# Altium integrated library Microchip PIC16 Part 1.IntLib: 1800 symbols (part 61 of 93)
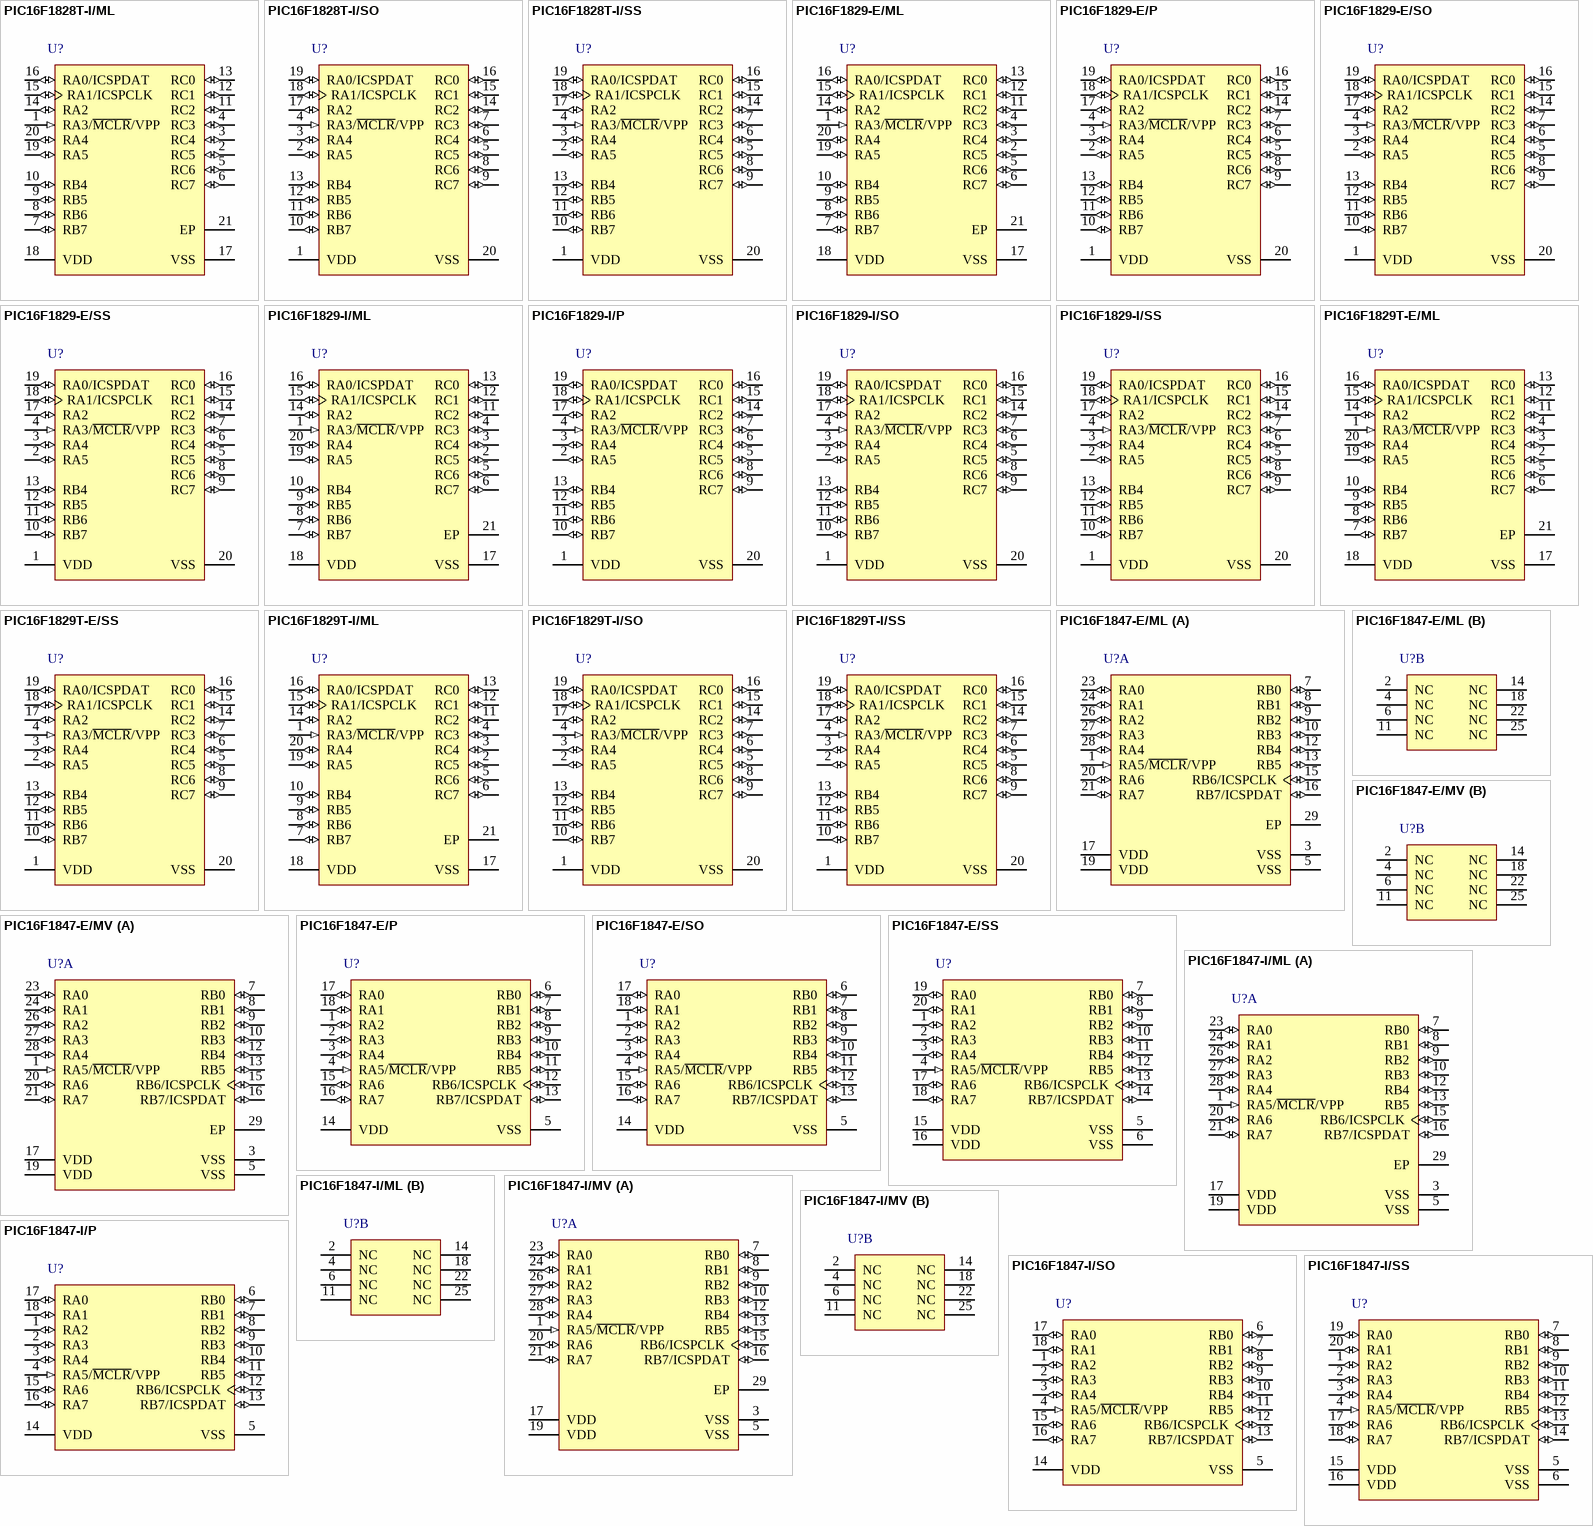
[diagram p159: symbols PIC16F1828T-I/ML to PIC16F1847-I/SS]

## PIC16F1829-I/SO
designator U?
Flash Microcontroller with XLP Technology, 32 MHz, 17 I/O, -40 to 85 degC, 20-pin SOIC (SO20), Tube; Manufacturer: Microchip; PartNumber: PIC16F1829-I/SO; # of A/D Channels: 12; Digital Communication: 1 -A/E/USART, 2 -MSSP(SPI/I2C); EEPROM Data Memory (bytes): 256; I/O Pins: 17; Internal Oscillator: 32 MHz, 31 kHz; Max. CPU Speed MHz: 32; Operation Voltage Range: 1.8V - 5.5V; Program Memory KBytes: 14; Program Memory KWords: 8; RAM: 1024; Timers: 4 - 8-bit, 1 - 16-bit; DatasheetVersion: Rev. C; PackageVersion: C04-094C, 12/2012; PackageReference: SOIC-SO20; PackageDescription: 20-Lead Plastic Small Outline, 7.5 x 12.8 mm Body, 1.27 mm Pitch; Supplier 1: Digi-Key; Supplier Part Number 1: PIC16F1829-I/SO-ND; Supplier 2: Farnell; Supplier Part Number 2: 1841453; Supplier 3: Mouser; Supplier Part Number 3: 579-PIC16F1829-I/SO; Memory Type: Flash; Packing: TUBE; RoHS: TRUE; Mounting Technology: Surface Mount; ComponentLink1Description: Datasheet; ComponentLink1URL: http://ww1.microchip.com/downloads/en/DeviceDoc/41440C.pdf; ComponentLink2Description: Package Specification; ComponentLink2URL: http://www.microchip.com/stellent/groups/techpub_sg/documents/packagingspec/en012702.pdf; ComponentLink3Description: URL Link1; ComponentLink3URL: Product URL:http://www.microchip.com/datasheet/PIC16F1829
footprint MCHP-SOIC-SO20_N (SOIC, 20-Leads, Body 12.8x7.5mm, Pitch 1.27mm, IPC Medium Density)
footprint MCHP-SOIC-SO20_L (SOIC, 20-Leads, Body 12.8x7.5mm, Pitch 1.27mm, IPC High Density)
footprint MCHP-SOIC-SO20_M (SOIC, 20-Leads, Body 12.8x7.5mm, Pitch 1.27mm, IPC Low Density)
pins: 1 VDD (power) "Positive supply.", 2 RA5 (io), 3 RA4 (io), 4 RA3/~{MCLR}/VPP (in), 5 RC5 (io), 6 RC4 (io), 7 RC3 (io), 8 RC6 (io), 9 RC7 (io), 10 RB7 (io), 11 RB6 (io), 12 RB5 (io), 13 RB4 (io), 14 RC2 (io), 15 RC1 (io), 16 RC0 (io), 17 RA2 (io), 18 RA1/ICSPCLK (io), 19 RA0/ICSPDAT (io), 20 VSS (power) "Ground reference."

## PIC16F1829-I/SS
designator U?
Flash Microcontroller with XLP Technology, 32 MHz, 17 I/O, -40 to 85 degC, 20-pin SSOP (SS20), Tube; Manufacturer: Microchip; PartNumber: PIC16F1829-I/SS; # of A/D Channels: 12; Digital Communication: 1 -A/E/USART, 2 -MSSP(SPI/I2C); EEPROM Data Memory (bytes): 256; I/O Pins: 17; Internal Oscillator: 32 MHz, 31 kHz; Max. CPU Speed MHz: 32; Operation Voltage Range: 1.8V - 5.5V; Program Memory KBytes: 14; Program Memory KWords: 8; RAM: 1024; Timers: 4 - 8-bit, 1 - 16-bit; DatasheetVersion: Rev. C; PackageVersion: C04-072B, 12/2012; PackageReference: SSOP-SS20; PackageDescription: 20-Lead Plastic Shrink Small Outline, 5.3 x 7.2 mm Body, 0.65 mm Pitch; Supplier 1: Digi-Key; Supplier Part Number 1: PIC16F1829-I/SS-ND; Supplier 2: Farnell; Supplier Part Number 2: 1841454; Supplier 3: Newark; Supplier Part Number 3: 82R4384; Supplier 4: Newark; Supplier Part Number 4: 83T3017; Supplier 5: Mouser; Supplier Part Number 5: 579-PIC16F1829-I/SS; Memory Type: Flash; Packing: TUBE; RoHS: TRUE; Mounting Technology: Surface Mount; ComponentLink1Description: Datasheet; ComponentLink1URL: http://ww1.microchip.com/downloads/en/DeviceDoc/41440C.pdf; ComponentLink2Description: Package Specification; ComponentLink2URL: http://www.microchip.com/stellent/groups/techpub_sg/documents/packagingspec/en012702.pdf; ComponentLink3Description: URL Link1; ComponentLink3URL: Product URL:http://www.microchip.com/datasheet/PIC16F1829
footprint MCHP-SSOP-SS20_N (SOP, 20-Leads, Body 7.2x5.3mm, Pitch 0.65mm, IPC Medium Density)
footprint MCHP-SSOP-SS20_L (SOP, 20-Leads, Body 7.2x5.3mm, Pitch 0.65mm, IPC High Density)
footprint MCHP-SSOP-SS20_M (SOP, 20-Leads, Body 7.2x5.3mm, Pitch 0.65mm, IPC Low Density)
pins: 1 VDD (power) "Positive supply.", 2 RA5 (io), 3 RA4 (io), 4 RA3/~{MCLR}/VPP (in), 5 RC5 (io), 6 RC4 (io), 7 RC3 (io), 8 RC6 (io), 9 RC7 (io), 10 RB7 (io), 11 RB6 (io), 12 RB5 (io), 13 RB4 (io), 14 RC2 (io), 15 RC1 (io), 16 RC0 (io), 17 RA2 (io), 18 RA1/ICSPCLK (io), 19 RA0/ICSPDAT (io), 20 VSS (power) "Ground reference."

## PIC16F1829T-E/ML
designator U?
Flash Microcontroller with XLP Technology, 32 MHz, 17 I/O, -40 to 125 degC, 20-pin QFN (ML20), Tape and Reel; Manufacturer: Microchip; PartNumber: PIC16F1829T-E/ML; # of A/D Channels: 12; Digital Communication: 1 -A/E/USART, 2 -MSSP(SPI/I2C); EEPROM Data Memory (bytes): 256; I/O Pins: 17; Internal Oscillator: 32 MHz, 31 kHz; Max. CPU Speed MHz: 32; Operation Voltage Range: 1.8V - 5.5V; Packing: T/R; Program Memory KBytes: 14; Program Memory KWords: 8; RAM: 1024; Timers: 4 - 8-bit, 1 - 16-bit; DatasheetVersion: Rev. C; PackageVersion: C04-126B, 12/2012; PackageReference: QFN-ML20; PackageDescription: 20-Lead Plastic Quad Flat, No Lead Package, 4 x 4 mm Body, 0.5 mm Pitch; Memory Type: Flash; RoHS: TRUE; Mounting Technology: Surface Mount; ComponentLink1Description: Datasheet; ComponentLink1URL: http://ww1.microchip.com/downloads/en/DeviceDoc/41440C.pdf; ComponentLink2Description: Package Specification; ComponentLink2URL: http://www.microchip.com/stellent/groups/techpub_sg/documents/packagingspec/en012702.pdf; ComponentLink3Description: URL Link1; ComponentLink3URL: Product URL:http://www.microchip.com/datasheet/PIC16F1829
footprint MCHP-QFN-ML20_N (QFN, 20-Leads, Body 4x4mm, Pitch 0.5mm, Thermal Pad 2.7x2.7mm, IPC Medium Density)
footprint MCHP-QFN-ML20_L (QFN, 20-Leads, Body 4x4mm, Pitch 0.5mm, Thermal Pad 2.7x2.7mm, IPC High Density)
footprint MCHP-QFN-ML20_M (QFN, 20-Leads, Body 4x4mm, Pitch 0.5mm, Thermal Pad 2.7x2.7mm, IPC Low Density)
pins: 1 RA3/~{MCLR}/VPP (in), 2 RC5 (io), 3 RC4 (io), 4 RC3 (io), 5 RC6 (io), 6 RC7 (io), 7 RB7 (io), 8 RB6 (io), 9 RB5 (io), 10 RB4 (io), 11 RC2 (io), 12 RC1 (io), 13 RC0 (io), 14 RA2 (io), 15 RA1/ICSPCLK (io), 16 RA0/ICSPDAT (io), 17 VSS (power) "Ground reference.", 18 VDD (power) "Positive supply.", 19 RA5 (io), 20 RA4 (io), 21 EP

## PIC16F1829T-E/SS
designator U?
Flash Microcontroller with XLP Technology, 32 MHz, 17 I/O, -40 to 125 degC, 20-pin SSOP (SS20), Tape and Reel; Manufacturer: Microchip; PartNumber: PIC16F1829T-E/SS; # of A/D Channels: 12; Digital Communication: 1 -A/E/USART, 2 -MSSP(SPI/I2C); EEPROM Data Memory (bytes): 256; I/O Pins: 17; Internal Oscillator: 32 MHz, 31 kHz; Max. CPU Speed MHz: 32; Operation Voltage Range: 1.8V - 5.5V; Packing: T/R; Program Memory KBytes: 14; Program Memory KWords: 8; RAM: 1024; Timers: 4 - 8-bit, 1 - 16-bit; DatasheetVersion: Rev. C; PackageVersion: C04-072B, 12/2012; PackageReference: SSOP-SS20; PackageDescription: 20-Lead Plastic Shrink Small Outline, 5.3 x 7.2 mm Body, 0.65 mm Pitch; Memory Type: Flash; RoHS: TRUE; Mounting Technology: Surface Mount; ComponentLink1Description: Datasheet; ComponentLink1URL: http://ww1.microchip.com/downloads/en/DeviceDoc/41440C.pdf; ComponentLink2Description: Package Specification; ComponentLink2URL: http://www.microchip.com/stellent/groups/techpub_sg/documents/packagingspec/en012702.pdf; ComponentLink3Description: URL Link1; ComponentLink3URL: Product URL:http://www.microchip.com/datasheet/PIC16F1829
footprint MCHP-SSOP-SS20_N (SOP, 20-Leads, Body 7.2x5.3mm, Pitch 0.65mm, IPC Medium Density)
footprint MCHP-SSOP-SS20_L (SOP, 20-Leads, Body 7.2x5.3mm, Pitch 0.65mm, IPC High Density)
footprint MCHP-SSOP-SS20_M (SOP, 20-Leads, Body 7.2x5.3mm, Pitch 0.65mm, IPC Low Density)
pins: 1 VDD (power) "Positive supply.", 2 RA5 (io), 3 RA4 (io), 4 RA3/~{MCLR}/VPP (in), 5 RC5 (io), 6 RC4 (io), 7 RC3 (io), 8 RC6 (io), 9 RC7 (io), 10 RB7 (io), 11 RB6 (io), 12 RB5 (io), 13 RB4 (io), 14 RC2 (io), 15 RC1 (io), 16 RC0 (io), 17 RA2 (io), 18 RA1/ICSPCLK (io), 19 RA0/ICSPDAT (io), 20 VSS (power) "Ground reference."

## PIC16F1829T-I/ML
designator U?
Flash Microcontroller with XLP Technology, 32 MHz, 17 I/O, -40 to 85 degC, 20-pin QFN (ML20), Tape and Reel; Manufacturer: Microchip; PartNumber: PIC16F1829T-I/ML; # of A/D Channels: 12; Digital Communication: 1 -A/E/USART, 2 -MSSP(SPI/I2C); EEPROM Data Memory (bytes): 256; I/O Pins: 17; Internal Oscillator: 32 MHz, 31 kHz; Max. CPU Speed MHz: 32; Operation Voltage Range: 1.8V - 5.5V; Packing: T/R; Program Memory KBytes: 14; Program Memory KWords: 8; RAM: 1024; Timers: 4 - 8-bit, 1 - 16-bit; DatasheetVersion: Rev. C; PackageVersion: C04-126B, 12/2012; PackageReference: QFN-ML20; PackageDescription: 20-Lead Plastic Quad Flat, No Lead Package, 4 x 4 mm Body, 0.5 mm Pitch; Supplier 1: Digi-Key; Supplier Part Number 1: PIC16F1829T-I/ML-ND; Supplier 2: Mouser; Supplier Part Number 2: 579-PIC16F1829T-I/ML; Memory Type: Flash; RoHS: TRUE; Mounting Technology: Surface Mount; ComponentLink1Description: Datasheet; ComponentLink1URL: http://ww1.microchip.com/downloads/en/DeviceDoc/41440C.pdf; ComponentLink2Description: Package Specification; ComponentLink2URL: http://www.microchip.com/stellent/groups/techpub_sg/documents/packagingspec/en012702.pdf; ComponentLink3Description: URL Link1; ComponentLink3URL: Product URL:http://www.microchip.com/datasheet/PIC16F1829
footprint MCHP-QFN-ML20_N (QFN, 20-Leads, Body 4x4mm, Pitch 0.5mm, Thermal Pad 2.7x2.7mm, IPC Medium Density)
footprint MCHP-QFN-ML20_L (QFN, 20-Leads, Body 4x4mm, Pitch 0.5mm, Thermal Pad 2.7x2.7mm, IPC High Density)
footprint MCHP-QFN-ML20_M (QFN, 20-Leads, Body 4x4mm, Pitch 0.5mm, Thermal Pad 2.7x2.7mm, IPC Low Density)
pins: 1 RA3/~{MCLR}/VPP (in), 2 RC5 (io), 3 RC4 (io), 4 RC3 (io), 5 RC6 (io), 6 RC7 (io), 7 RB7 (io), 8 RB6 (io), 9 RB5 (io), 10 RB4 (io), 11 RC2 (io), 12 RC1 (io), 13 RC0 (io), 14 RA2 (io), 15 RA1/ICSPCLK (io), 16 RA0/ICSPDAT (io), 17 VSS (power) "Ground reference.", 18 VDD (power) "Positive supply.", 19 RA5 (io), 20 RA4 (io), 21 EP

## PIC16F1829T-I/SO
designator U?
Flash Microcontroller with XLP Technology, 32 MHz, 17 I/O, -40 to 85 degC, 20-pin SOIC (SO20), Tape and Reel; Manufacturer: Microchip; PartNumber: PIC16F1829T-I/SO; # of A/D Channels: 12; Digital Communication: 1 -A/E/USART, 2 -MSSP(SPI/I2C); EEPROM Data Memory (bytes): 256; I/O Pins: 17; Internal Oscillator: 32 MHz, 31 kHz; Max. CPU Speed MHz: 32; Operation Voltage Range: 1.8V - 5.5V; Packing: T/R; Program Memory KBytes: 14; Program Memory KWords: 8; RAM: 1024; Timers: 4 - 8-bit, 1 - 16-bit; DatasheetVersion: Rev. C; PackageVersion: C04-094C, 12/2012; PackageReference: SOIC-SO20; PackageDescription: 20-Lead Plastic Small Outline, 7.5 x 12.8 mm Body, 1.27 mm Pitch; Supplier 1: Digi-Key; Supplier Part Number 1: PIC16F1829T-I/SO-ND; Supplier 2: Newark; Supplier Part Number 2: 82R4386; Supplier 3: Mouser; Supplier Part Number 3: 579-PIC16F1829T-I/SO; Memory Type: Flash; RoHS: TRUE; Mounting Technology: Surface Mount; ComponentLink1Description: Datasheet; ComponentLink1URL: http://ww1.microchip.com/downloads/en/DeviceDoc/41440C.pdf; ComponentLink2Description: Package Specification; ComponentLink2URL: http://www.microchip.com/stellent/groups/techpub_sg/documents/packagingspec/en012702.pdf; ComponentLink3Description: URL Link1; ComponentLink3URL: Product URL:http://www.microchip.com/datasheet/PIC16F1829
footprint MCHP-SOIC-SO20_N (SOIC, 20-Leads, Body 12.8x7.5mm, Pitch 1.27mm, IPC Medium Density)
footprint MCHP-SOIC-SO20_L (SOIC, 20-Leads, Body 12.8x7.5mm, Pitch 1.27mm, IPC High Density)
footprint MCHP-SOIC-SO20_M (SOIC, 20-Leads, Body 12.8x7.5mm, Pitch 1.27mm, IPC Low Density)
pins: 1 VDD (power) "Positive supply.", 2 RA5 (io), 3 RA4 (io), 4 RA3/~{MCLR}/VPP (in), 5 RC5 (io), 6 RC4 (io), 7 RC3 (io), 8 RC6 (io), 9 RC7 (io), 10 RB7 (io), 11 RB6 (io), 12 RB5 (io), 13 RB4 (io), 14 RC2 (io), 15 RC1 (io), 16 RC0 (io), 17 RA2 (io), 18 RA1/ICSPCLK (io), 19 RA0/ICSPDAT (io), 20 VSS (power) "Ground reference."

## PIC16F1829T-I/SS
designator U?
Flash Microcontroller with XLP Technology, 32 MHz, 17 I/O, -40 to 85 degC, 20-pin SSOP (SS20), Tape and Reel; Manufacturer: Microchip; PartNumber: PIC16F1829T-I/SS; # of A/D Channels: 12; Digital Communication: 1 -A/E/USART, 2 -MSSP(SPI/I2C); EEPROM Data Memory (bytes): 256; I/O Pins: 17; Internal Oscillator: 32 MHz, 31 kHz; Max. CPU Speed MHz: 32; Operation Voltage Range: 1.8V - 5.5V; Packing: T/R; Program Memory KBytes: 14; Program Memory KWords: 8; RAM: 1024; Timers: 4 - 8-bit, 1 - 16-bit; DatasheetVersion: Rev. C; PackageVersion: C04-072B, 12/2012; PackageReference: SSOP-SS20; PackageDescription: 20-Lead Plastic Shrink Small Outline, 5.3 x 7.2 mm Body, 0.65 mm Pitch; Supplier 1: Digi-Key; Supplier Part Number 1: PIC16F1829T-I/SS-ND; Supplier 2: Newark; Supplier Part Number 2: 82R4387; Supplier 3: Mouser; Supplier Part Number 3: 579-PIC16F1829T-I/SS; Memory Type: Flash; RoHS: TRUE; Mounting Technology: Surface Mount; ComponentLink1Description: Datasheet; ComponentLink1URL: http://ww1.microchip.com/downloads/en/DeviceDoc/41440C.pdf; ComponentLink2Description: Package Specification; ComponentLink2URL: http://www.microchip.com/stellent/groups/techpub_sg/documents/packagingspec/en012702.pdf; ComponentLink3Description: URL Link1; ComponentLink3URL: Product URL:http://www.microchip.com/datasheet/PIC16F1829
footprint MCHP-SSOP-SS20_N (SOP, 20-Leads, Body 7.2x5.3mm, Pitch 0.65mm, IPC Medium Density)
footprint MCHP-SSOP-SS20_L (SOP, 20-Leads, Body 7.2x5.3mm, Pitch 0.65mm, IPC High Density)
footprint MCHP-SSOP-SS20_M (SOP, 20-Leads, Body 7.2x5.3mm, Pitch 0.65mm, IPC Low Density)
pins: 1 VDD (power) "Positive supply.", 2 RA5 (io), 3 RA4 (io), 4 RA3/~{MCLR}/VPP (in), 5 RC5 (io), 6 RC4 (io), 7 RC3 (io), 8 RC6 (io), 9 RC7 (io), 10 RB7 (io), 11 RB6 (io), 12 RB5 (io), 13 RB4 (io), 14 RC2 (io), 15 RC1 (io), 16 RC0 (io), 17 RA2 (io), 18 RA1/ICSPCLK (io), 19 RA0/ICSPDAT (io), 20 VSS (power) "Ground reference."

## PIC16F1847-E/ML
designator U?
Flash Microcontroller with XLP Technology, 32 MHz, 15 I/O, -40 to 125 degC, 28-pin QFN (ML28), Tube; Manufacturer: Microchip; PartNumber: PIC16F1847-E/ML; # of A/D Channels: 12; Digital Communication: 1 -A/E/USART, 2 -MSSP(SPI/I2C); EEPROM Data Memory (bytes): 256; I/O Pins: 15; Internal Oscillator: 32 MHz, 31 kHz; Max. CPU Speed MHz: 32; Operation Voltage Range: 1.8V - 5.5V; Program Memory KBytes: 14; Program Memory KWords: 8; RAM: 1024; Timers: 4 - 8-bit, 1 - 16-bit; DatasheetVersion: Rev. D; PackageVersion: C04-105C, 12/2012; PackageReference: QFN-ML28; PackageDescription: 28-Lead Plastic Quad Flat, 6 x 6 mm Body, 0.65 mm Pitch; Supplier 1: Digi-Key; Supplier Part Number 1: PIC16F1847-E/ML-ND; Supplier 2: Mouser; Supplier Part Number 2: 579-PIC16F1847-E/ML; Memory Type: Flash; Packing: TUBE; RoHS: TRUE; Mounting Technology: Surface Mount; ComponentLink1Description: Datasheet; ComponentLink1URL: http://ww1.microchip.com/downloads/en/DeviceDoc/40001453D.pdf; ComponentLink2Description: Package Specification; ComponentLink2URL: http://www.microchip.com/stellent/groups/techpub_sg/documents/packagingspec/en012702.pdf; ComponentLink3Description: URL Link1; ComponentLink3URL: Product URL:http://www.microchip.com/datasheet/PIC16F1847
footprint MCHP-QFN-ML28_N (QFN, 28-Leads, Body 6x6mm, Pitch 0.65mm, Thermal Pad 3.7x3.7mm, IPC Medium Density)
footprint MCHP-QFN-ML28_L (QFN, 28-Leads, Body 6x6mm, Pitch 0.65mm, Thermal Pad 3.7x3.7mm, IPC High Density)
footprint MCHP-QFN-ML28_M (QFN, 28-Leads, Body 6x6mm, Pitch 0.65mm, Thermal Pad 3.7x3.7mm, IPC Low Density)
part A pins: 1 RA5/~{MCLR}/VPP (in), 3 VSS (power) "Ground reference.", 5 VSS (power) "Ground reference.", 7 RB0 (io), 8 RB1 (io), 9 RB2 (io), 10 RB3 (io), 12 RB4 (io), 13 RB5 (io), 15 RB6/ICSPCLK (io), 16 RB7/ICSPDAT (io), 17 VDD (power) "Positive supply.", 19 VDD (power) "Positive supply.", 20 RA6 (io), 21 RA7 (io), 23 RA0 (io), 24 RA1 (io), 26 RA2 (io), 27 RA3 (io), 28 RA4 (io), 29 EP
part B pins: 2 NC, 4 NC, 6 NC, 11 NC, 14 NC, 18 NC, 22 NC, 25 NC

## PIC16F1847-E/MV
designator U?
Flash Microcontroller with XLP Technology, 32 MHz, 15 I/O, -40 to 125 degC, 28-pin UQFN (MV28), Tube; Manufacturer: Microchip; PartNumber: PIC16F1847-E/MV; # of A/D Channels: 12; Digital Communication: 1 -A/E/USART, 2 -MSSP(SPI/I2C); EEPROM Data Memory (bytes): 256; I/O Pins: 15; Internal Oscillator: 32 MHz, 31 kHz; Max. CPU Speed MHz: 32; Operation Voltage Range: 1.8V - 5.5V; Program Memory KBytes: 14; Program Memory KWords: 8; RAM: 1024; Timers: 4 - 8-bit, 1 - 16-bit; DatasheetVersion: Rev. D; PackageVersion: C04-152A, 04/2013; PackageReference: UQFN-MV28; PackageDescription: 28-Lead Plastic Ultra Thin Quad Flat, Body 4 x 4 mm, Pitch 0.4 mm; Supplier 1: Digi-Key; Supplier Part Number 1: PIC16F1847-E/MV-ND; Supplier 2: Mouser; Supplier Part Number 2: 579-PIC16F1847-E/MV; Memory Type: Flash; Packing: TUBE; RoHS: TRUE; Mounting Technology: Surface Mount; ComponentLink1Description: Datasheet; ComponentLink1URL: http://ww1.microchip.com/downloads/en/DeviceDoc/40001453D.pdf; ComponentLink2Description: Package Specification; ComponentLink2URL: http://www.microchip.com/stellent/groups/techpub_sg/documents/packagingspec/en012702.pdf; ComponentLink3Description: URL Link1; ComponentLink3URL: Product URL:http://www.microchip.com/datasheet/PIC16F1847
footprint MCHP-UQFN-MV28_N (QFN, 28-Leads, Body 4x4mm, Pitch 0.4mm, Thermal Pad 2.65x2.65mm, IPC Medium Density)
footprint MCHP-UQFN-MV28_L (QFN, 28-Leads, Body 4x4mm, Pitch 0.4mm, Thermal Pad 2.65x2.65mm, IPC High Density)
footprint MCHP-UQFN-MV28_M (QFN, 28-Leads, Body 4x4mm, Pitch 0.4mm, Thermal Pad 2.65x2.65mm, IPC Low Density)
part A pins: 1 RA5/~{MCLR}/VPP (in), 3 VSS (power) "Ground reference.", 5 VSS (power) "Ground reference.", 7 RB0 (io), 8 RB1 (io), 9 RB2 (io), 10 RB3 (io), 12 RB4 (io), 13 RB5 (io), 15 RB6/ICSPCLK (io), 16 RB7/ICSPDAT (io), 17 VDD (power) "Positive supply.", 19 VDD (power) "Positive supply.", 20 RA6 (io), 21 RA7 (io), 23 RA0 (io), 24 RA1 (io), 26 RA2 (io), 27 RA3 (io), 28 RA4 (io), 29 EP
part B pins: 2 NC, 4 NC, 6 NC, 11 NC, 14 NC, 18 NC, 22 NC, 25 NC

## PIC16F1847-E/P
designator U?
Flash Microcontroller with XLP Technology, 32 MHz, 15 I/O, -40 to 125 degC, 18-pin PDIP (P18), Tube; Manufacturer: Microchip; PartNumber: PIC16F1847-E/P; # of A/D Channels: 12; Digital Communication: 1 -A/E/USART, 2 -MSSP(SPI/I2C); EEPROM Data Memory (bytes): 256; I/O Pins: 15; Internal Oscillator: 32 MHz, 31 kHz; Max. CPU Speed MHz: 32; Operation Voltage Range: 1.8V - 5.5V; Program Memory KBytes: 14; Program Memory KWords: 8; RAM: 1024; Timers: 4 - 8-bit, 1 - 16-bit; DatasheetVersion: Rev. D; PackageVersion: C04-007B, 12/2012; PackageReference: PDIP-P18; PackageDescription: 18-Lead Plastic Dual In-Line, Row Spacing 7.62 mm, 22.86 x 6.6 mm Body, 2.54 mm Pitch; Supplier 1: Digi-Key; Supplier Part Number 1: PIC16F1847-E/P-ND; Supplier 2: Mouser; Supplier Part Number 2: 579-PIC16F1847-E/P; Memory Type: Flash; Packing: TUBE; RoHS: TRUE; Mounting Technology: Through Hole; ComponentLink1Description: Datasheet; ComponentLink1URL: http://ww1.microchip.com/downloads/en/DeviceDoc/40001453D.pdf; ComponentLink2Description: Package Specification; ComponentLink2URL: http://www.microchip.com/stellent/groups/techpub_sg/documents/packagingspec/en012702.pdf; ComponentLink3Description: URL Link1; ComponentLink3URL: Product URL:http://www.microchip.com/datasheet/PIC16F1847
footprint MCHP-PDIP-P18 (DIP, 18-Leads, Body 22.83x6.604mm, Pitch 2.54mm)
pins: 1 RA2 (io), 2 RA3 (io), 3 RA4 (io), 4 RA5/~{MCLR}/VPP (in), 5 VSS (power) "Ground reference.", 6 RB0 (io), 7 RB1 (io), 8 RB2 (io), 9 RB3 (io), 10 RB4 (io), 11 RB5 (io), 12 RB6/ICSPCLK (io), 13 RB7/ICSPDAT (io), 14 VDD (power) "Positive supply.", 15 RA6 (io), 16 RA7 (io), 17 RA0 (io), 18 RA1 (io)

## PIC16F1847-E/SO
designator U?
Flash Microcontroller with XLP Technology, 32 MHz, 15 I/O, -40 to 125 degC, 18-pin SOIC (SO18), Tube; Manufacturer: Microchip; PartNumber: PIC16F1847-E/SO; # of A/D Channels: 12; Digital Communication: 1 -A/E/USART, 2 -MSSP(SPI/I2C); EEPROM Data Memory (bytes): 256; I/O Pins: 15; Internal Oscillator: 32 MHz, 31 kHz; Max. CPU Speed MHz: 32; Operation Voltage Range: 1.8V - 5.5V; Program Memory KBytes: 14; Program Memory KWords: 8; RAM: 1024; Timers: 4 - 8-bit, 1 - 16-bit; DatasheetVersion: Rev. D; PackageVersion: C04-051C, 12/2012; PackageReference: SOIC-SO18; PackageDescription: 18-Lead Plastic Small Outline, 7.5 x 11.55 mm Body, 1.27 mm Pitch; Supplier 1: Digi-Key; Supplier Part Number 1: PIC16F1847-E/SO-ND; Supplier 2: Mouser; Supplier Part Number 2: 579-PIC16F1847-E/SO; Memory Type: Flash; Packing: TUBE; RoHS: TRUE; Mounting Technology: Surface Mount; ComponentLink1Description: Datasheet; ComponentLink1URL: http://ww1.microchip.com/downloads/en/DeviceDoc/40001453D.pdf; ComponentLink2Description: Package Specification; ComponentLink2URL: http://www.microchip.com/stellent/groups/techpub_sg/documents/packagingspec/en012702.pdf; ComponentLink3Description: URL Link1; ComponentLink3URL: Product URL:http://www.microchip.com/datasheet/PIC16F1847
footprint MCHP-SOIC-SO18_N (SOIC, 18-Leads, Body 11.55x7.5mm, Pitch 1.27mm, IPC Medium Density)
footprint MCHP-SOIC-SO18_L (SOIC, 18-Leads, Body 11.55x7.5mm, Pitch 1.27mm, IPC High Density)
footprint MCHP-SOIC-SO18_M (SOIC, 18-Leads, Body 11.55x7.5mm, Pitch 1.27mm, IPC Low Density)
pins: 1 RA2 (io), 2 RA3 (io), 3 RA4 (io), 4 RA5/~{MCLR}/VPP (in), 5 VSS (power) "Ground reference.", 6 RB0 (io), 7 RB1 (io), 8 RB2 (io), 9 RB3 (io), 10 RB4 (io), 11 RB5 (io), 12 RB6/ICSPCLK (io), 13 RB7/ICSPDAT (io), 14 VDD (power) "Positive supply.", 15 RA6 (io), 16 RA7 (io), 17 RA0 (io), 18 RA1 (io)

## PIC16F1847-E/SS
designator U?
Flash Microcontroller with XLP Technology, 32 MHz, 15 I/O, -40 to 125 degC, 20-pin SSOP (SS20), Tube; Manufacturer: Microchip; PartNumber: PIC16F1847-E/SS; # of A/D Channels: 12; Digital Communication: 1 -A/E/USART, 2 -MSSP(SPI/I2C); EEPROM Data Memory (bytes): 256; I/O Pins: 15; Internal Oscillator: 32 MHz, 31 kHz; Max. CPU Speed MHz: 32; Operation Voltage Range: 1.8V - 5.5V; Program Memory KBytes: 14; Program Memory KWords: 8; RAM: 1024; Timers: 4 - 8-bit, 1 - 16-bit; DatasheetVersion: Rev. D; PackageVersion: C04-072B, 12/2012; PackageReference: SSOP-SS20; PackageDescription: 20-Lead Plastic Shrink Small Outline, 5.3 x 7.2 mm Body, 0.65 mm Pitch; Supplier 1: Digi-Key; Supplier Part Number 1: PIC16F1847-E/SS-ND; Supplier 2: Newark; Supplier Part Number 2: 23T3104; Supplier 3: Mouser; Supplier Part Number 3: 579-PIC16F1847-E/SS; Memory Type: Flash; Packing: TUBE; RoHS: TRUE; Mounting Technology: Surface Mount; ComponentLink1Description: Datasheet; ComponentLink1URL: http://ww1.microchip.com/downloads/en/DeviceDoc/40001453D.pdf; ComponentLink2Description: Package Specification; ComponentLink2URL: http://www.microchip.com/stellent/groups/techpub_sg/documents/packagingspec/en012702.pdf; ComponentLink3Description: URL Link1; ComponentLink3URL: Product URL:http://www.microchip.com/datasheet/PIC16F1847
footprint MCHP-SSOP-SS20_N (SOP, 20-Leads, Body 7.2x5.3mm, Pitch 0.65mm, IPC Medium Density)
footprint MCHP-SSOP-SS20_L (SOP, 20-Leads, Body 7.2x5.3mm, Pitch 0.65mm, IPC High Density)
footprint MCHP-SSOP-SS20_M (SOP, 20-Leads, Body 7.2x5.3mm, Pitch 0.65mm, IPC Low Density)
pins: 1 RA2 (io), 2 RA3 (io), 3 RA4 (io), 4 RA5/~{MCLR}/VPP (in), 5 VSS (power) "Ground reference.", 6 VSS (power) "Ground reference.", 7 RB0 (io), 8 RB1 (io), 9 RB2 (io), 10 RB3 (io), 11 RB4 (io), 12 RB5 (io), 13 RB6/ICSPCLK (io), 14 RB7/ICSPDAT (io), 15 VDD (power) "Positive supply.", 16 VDD (power) "Positive supply.", 17 RA6 (io), 18 RA7 (io), 19 RA0 (io), 20 RA1 (io)

## PIC16F1847-I/ML
designator U?
Flash Microcontroller with XLP Technology, 32 MHz, 15 I/O, -40 to 85 degC, 28-pin QFN (ML28), Tube; Manufacturer: Microchip; PartNumber: PIC16F1847-I/ML; # of A/D Channels: 12; Digital Communication: 1 -A/E/USART, 2 -MSSP(SPI/I2C); EEPROM Data Memory (bytes): 256; I/O Pins: 15; Internal Oscillator: 32 MHz, 31 kHz; Max. CPU Speed MHz: 32; Operation Voltage Range: 1.8V - 5.5V; Program Memory KBytes: 14; Program Memory KWords: 8; RAM: 1024; Timers: 4 - 8-bit, 1 - 16-bit; DatasheetVersion: Rev. D; PackageVersion: C04-105C, 12/2012; PackageReference: QFN-ML28; PackageDescription: 28-Lead Plastic Quad Flat, 6 x 6 mm Body, 0.65 mm Pitch; Supplier 1: Digi-Key; Supplier Part Number 1: PIC16F1847-I/ML-ND; Supplier 2: Mouser; Supplier Part Number 2: 579-PIC16F1847-I/ML; Memory Type: Flash; Packing: TUBE; RoHS: TRUE; Mounting Technology: Surface Mount; ComponentLink1Description: Datasheet; ComponentLink1URL: http://ww1.microchip.com/downloads/en/DeviceDoc/40001453D.pdf; ComponentLink2Description: Package Specification; ComponentLink2URL: http://www.microchip.com/stellent/groups/techpub_sg/documents/packagingspec/en012702.pdf; ComponentLink3Description: URL Link1; ComponentLink3URL: Product URL:http://www.microchip.com/datasheet/PIC16F1847
footprint MCHP-QFN-ML28_N (QFN, 28-Leads, Body 6x6mm, Pitch 0.65mm, Thermal Pad 3.7x3.7mm, IPC Medium Density)
footprint MCHP-QFN-ML28_L (QFN, 28-Leads, Body 6x6mm, Pitch 0.65mm, Thermal Pad 3.7x3.7mm, IPC High Density)
footprint MCHP-QFN-ML28_M (QFN, 28-Leads, Body 6x6mm, Pitch 0.65mm, Thermal Pad 3.7x3.7mm, IPC Low Density)
part A pins: 1 RA5/~{MCLR}/VPP (in), 3 VSS (power) "Ground reference.", 5 VSS (power) "Ground reference.", 7 RB0 (io), 8 RB1 (io), 9 RB2 (io), 10 RB3 (io), 12 RB4 (io), 13 RB5 (io), 15 RB6/ICSPCLK (io), 16 RB7/ICSPDAT (io), 17 VDD (power) "Positive supply.", 19 VDD (power) "Positive supply.", 20 RA6 (io), 21 RA7 (io), 23 RA0 (io), 24 RA1 (io), 26 RA2 (io), 27 RA3 (io), 28 RA4 (io), 29 EP
part B pins: 2 NC, 4 NC, 6 NC, 11 NC, 14 NC, 18 NC, 22 NC, 25 NC

## PIC16F1847-I/MV
designator U?
Flash Microcontroller with XLP Technology, 32 MHz, 15 I/O, -40 to 85 degC, 28-pin UQFN (MV28), Tube; Manufacturer: Microchip; PartNumber: PIC16F1847-I/MV; # of A/D Channels: 12; Digital Communication: 1 -A/E/USART, 2 -MSSP(SPI/I2C); EEPROM Data Memory (bytes): 256; I/O Pins: 15; Internal Oscillator: 32 MHz, 31 kHz; Max. CPU Speed MHz: 32; Operation Voltage Range: 1.8V - 5.5V; Program Memory KBytes: 14; Program Memory KWords: 8; RAM: 1024; Timers: 4 - 8-bit, 1 - 16-bit; DatasheetVersion: Rev. D; PackageVersion: C04-152A, 04/2013; PackageReference: UQFN-MV28; PackageDescription: 28-Lead Plastic Ultra Thin Quad Flat, Body 4 x 4 mm, Pitch 0.4 mm; Supplier 1: Digi-Key; Supplier Part Number 1: PIC16F1847-I/MV-ND; Supplier 2: Mouser; Supplier Part Number 2: 579-PIC16F1847-I/MV; Memory Type: Flash; Packing: TUBE; RoHS: TRUE; Mounting Technology: Surface Mount; ComponentLink1Description: Datasheet; ComponentLink1URL: http://ww1.microchip.com/downloads/en/DeviceDoc/40001453D.pdf; ComponentLink2Description: Package Specification; ComponentLink2URL: http://www.microchip.com/stellent/groups/techpub_sg/documents/packagingspec/en012702.pdf; ComponentLink3Description: URL Link1; ComponentLink3URL: Product URL:http://www.microchip.com/datasheet/PIC16F1847
footprint MCHP-UQFN-MV28_N (QFN, 28-Leads, Body 4x4mm, Pitch 0.4mm, Thermal Pad 2.65x2.65mm, IPC Medium Density)
footprint MCHP-UQFN-MV28_L (QFN, 28-Leads, Body 4x4mm, Pitch 0.4mm, Thermal Pad 2.65x2.65mm, IPC High Density)
footprint MCHP-UQFN-MV28_M (QFN, 28-Leads, Body 4x4mm, Pitch 0.4mm, Thermal Pad 2.65x2.65mm, IPC Low Density)
part A pins: 1 RA5/~{MCLR}/VPP (in), 3 VSS (power) "Ground reference.", 5 VSS (power) "Ground reference.", 7 RB0 (io), 8 RB1 (io), 9 RB2 (io), 10 RB3 (io), 12 RB4 (io), 13 RB5 (io), 15 RB6/ICSPCLK (io), 16 RB7/ICSPDAT (io), 17 VDD (power) "Positive supply.", 19 VDD (power) "Positive supply.", 20 RA6 (io), 21 RA7 (io), 23 RA0 (io), 24 RA1 (io), 26 RA2 (io), 27 RA3 (io), 28 RA4 (io), 29 EP
part B pins: 2 NC, 4 NC, 6 NC, 11 NC, 14 NC, 18 NC, 22 NC, 25 NC

## PIC16F1847-I/P
designator U?
Flash Microcontroller with XLP Technology, 32 MHz, 15 I/O, -40 to 85 degC, 18-pin PDIP (P18), Tube; Manufacturer: Microchip; PartNumber: PIC16F1847-I/P; # of A/D Channels: 12; Digital Communication: 1 -A/E/USART, 2 -MSSP(SPI/I2C); EEPROM Data Memory (bytes): 256; I/O Pins: 15; Internal Oscillator: 32 MHz, 31 kHz; Max. CPU Speed MHz: 32; Operation Voltage Range: 1.8V - 5.5V; Program Memory KBytes: 14; Program Memory KWords: 8; RAM: 1024; Timers: 4 - 8-bit, 1 - 16-bit; DatasheetVersion: Rev. D; PackageVersion: C04-007B, 12/2012; PackageReference: PDIP-P18; PackageDescription: 18-Lead Plastic Dual In-Line, Row Spacing 7.62 mm, 22.86 x 6.6 mm Body, 2.54 mm Pitch; Supplier 1: Digi-Key; Supplier Part Number 1: PIC16F1847-I/P-ND; Supplier 2: Farnell; Supplier Part Number 2: 1971869; Supplier 3: Newark; Supplier Part Number 3: 23T3106; Supplier 4: Newark; Supplier Part Number 4: 58T9874; Supplier 5: Mouser; Supplier Part Number 5: 579-PIC16F1847-I/P; Memory Type: Flash; Packing: TUBE; RoHS: TRUE; Mounting Technology: Through Hole; ComponentLink1Description: Datasheet; ComponentLink1URL: http://ww1.microchip.com/downloads/en/DeviceDoc/40001453D.pdf; ComponentLink2Description: Package Specification; ComponentLink2URL: http://www.microchip.com/stellent/groups/techpub_sg/documents/packagingspec/en012702.pdf; ComponentLink3Description: URL Link1; ComponentLink3URL: Product URL:http://www.microchip.com/datasheet/PIC16F1847
footprint MCHP-PDIP-P18 (DIP, 18-Leads, Body 22.83x6.604mm, Pitch 2.54mm)
pins: 1 RA2 (io), 2 RA3 (io), 3 RA4 (io), 4 RA5/~{MCLR}/VPP (in), 5 VSS (power) "Ground reference.", 6 RB0 (io), 7 RB1 (io), 8 RB2 (io), 9 RB3 (io), 10 RB4 (io), 11 RB5 (io), 12 RB6/ICSPCLK (io), 13 RB7/ICSPDAT (io), 14 VDD (power) "Positive supply.", 15 RA6 (io), 16 RA7 (io), 17 RA0 (io), 18 RA1 (io)

## PIC16F1847-I/SO
designator U?
Flash Microcontroller with XLP Technology, 32 MHz, 15 I/O, -40 to 85 degC, 18-pin SOIC (SO18), Tube; Manufacturer: Microchip; PartNumber: PIC16F1847-I/SO; # of A/D Channels: 12; Digital Communication: 1 -A/E/USART, 2 -MSSP(SPI/I2C); EEPROM Data Memory (bytes): 256; I/O Pins: 15; Internal Oscillator: 32 MHz, 31 kHz; Max. CPU Speed MHz: 32; Operation Voltage Range: 1.8V - 5.5V; Program Memory KBytes: 14; Program Memory KWords: 8; RAM: 1024; Timers: 4 - 8-bit, 1 - 16-bit; DatasheetVersion: Rev. D; PackageVersion: C04-051C, 12/2012; PackageReference: SOIC-SO18; PackageDescription: 18-Lead Plastic Small Outline, 7.5 x 11.55 mm Body, 1.27 mm Pitch; Supplier 1: Digi-Key; Supplier Part Number 1: PIC16F1847-I/SO-ND; Supplier 2: Farnell; Supplier Part Number 2: 1971870; Supplier 3: Newark; Supplier Part Number 3: 23T3107; Supplier 4: Newark; Supplier Part Number 4: 58T9875; Supplier 5: Mouser; Supplier Part Number 5: 579-PIC16F1847-I/SO; Memory Type: Flash; Packing: TUBE; RoHS: TRUE; Mounting Technology: Surface Mount; ComponentLink1Description: Datasheet; ComponentLink1URL: http://ww1.microchip.com/downloads/en/DeviceDoc/40001453D.pdf; ComponentLink2Description: Package Specification; ComponentLink2URL: http://www.microchip.com/stellent/groups/techpub_sg/documents/packagingspec/en012702.pdf; ComponentLink3Description: URL Link1; ComponentLink3URL: Product URL:http://www.microchip.com/datasheet/PIC16F1847
footprint MCHP-SOIC-SO18_N (SOIC, 18-Leads, Body 11.55x7.5mm, Pitch 1.27mm, IPC Medium Density)
footprint MCHP-SOIC-SO18_L (SOIC, 18-Leads, Body 11.55x7.5mm, Pitch 1.27mm, IPC High Density)
footprint MCHP-SOIC-SO18_M (SOIC, 18-Leads, Body 11.55x7.5mm, Pitch 1.27mm, IPC Low Density)
pins: 1 RA2 (io), 2 RA3 (io), 3 RA4 (io), 4 RA5/~{MCLR}/VPP (in), 5 VSS (power) "Ground reference.", 6 RB0 (io), 7 RB1 (io), 8 RB2 (io), 9 RB3 (io), 10 RB4 (io), 11 RB5 (io), 12 RB6/ICSPCLK (io), 13 RB7/ICSPDAT (io), 14 VDD (power) "Positive supply.", 15 RA6 (io), 16 RA7 (io), 17 RA0 (io), 18 RA1 (io)

## PIC16F1847-I/SS
designator U?
Flash Microcontroller with XLP Technology, 32 MHz, 15 I/O, -40 to 85 degC, 20-pin SSOP (SS20), Tube; Manufacturer: Microchip; PartNumber: PIC16F1847-I/SS; # of A/D Channels: 12; Digital Communication: 1 -A/E/USART, 2 -MSSP(SPI/I2C); EEPROM Data Memory (bytes): 256; I/O Pins: 15; Internal Oscillator: 32 MHz, 31 kHz; Max. CPU Speed MHz: 32; Operation Voltage Range: 1.8V - 5.5V; Program Memory KBytes: 14; Program Memory KWords: 8; RAM: 1024; Timers: 4 - 8-bit, 1 - 16-bit; DatasheetVersion: Rev. D; PackageVersion: C04-072B, 12/2012; PackageReference: SSOP-SS20; PackageDescription: 20-Lead Plastic Shrink Small Outline, 5.3 x 7.2 mm Body, 0.65 mm Pitch; Supplier 1: Digi-Key; Supplier Part Number 1: PIC16F1847-I/SS-ND; Supplier 2: Farnell; Supplier Part Number 2: 1971871; Supplier 3: Newark; Supplier Part Number 3: 58T9876; Supplier 4: Mouser; Supplier Part Number 4: 579-PIC16F1847-I/SS; Memory Type: Flash; Packing: TUBE; RoHS: TRUE; Mounting Technology: Surface Mount; ComponentLink1Description: Datasheet; ComponentLink1URL: http://ww1.microchip.com/downloads/en/DeviceDoc/40001453D.pdf; ComponentLink2Description: Package Specification; ComponentLink2URL: http://www.microchip.com/stellent/groups/techpub_sg/documents/packagingspec/en012702.pdf; ComponentLink3Description: URL Link1; ComponentLink3URL: Product URL:http://www.microchip.com/datasheet/PIC16F1847
footprint MCHP-SSOP-SS20_N (SOP, 20-Leads, Body 7.2x5.3mm, Pitch 0.65mm, IPC Medium Density)
footprint MCHP-SSOP-SS20_L (SOP, 20-Leads, Body 7.2x5.3mm, Pitch 0.65mm, IPC High Density)
footprint MCHP-SSOP-SS20_M (SOP, 20-Leads, Body 7.2x5.3mm, Pitch 0.65mm, IPC Low Density)
pins: 1 RA2 (io), 2 RA3 (io), 3 RA4 (io), 4 RA5/~{MCLR}/VPP (in), 5 VSS (power) "Ground reference.", 6 VSS (power) "Ground reference.", 7 RB0 (io), 8 RB1 (io), 9 RB2 (io), 10 RB3 (io), 11 RB4 (io), 12 RB5 (io), 13 RB6/ICSPCLK (io), 14 RB7/ICSPDAT (io), 15 VDD (power) "Positive supply.", 16 VDD (power) "Positive supply.", 17 RA6 (io), 18 RA7 (io), 19 RA0 (io), 20 RA1 (io)

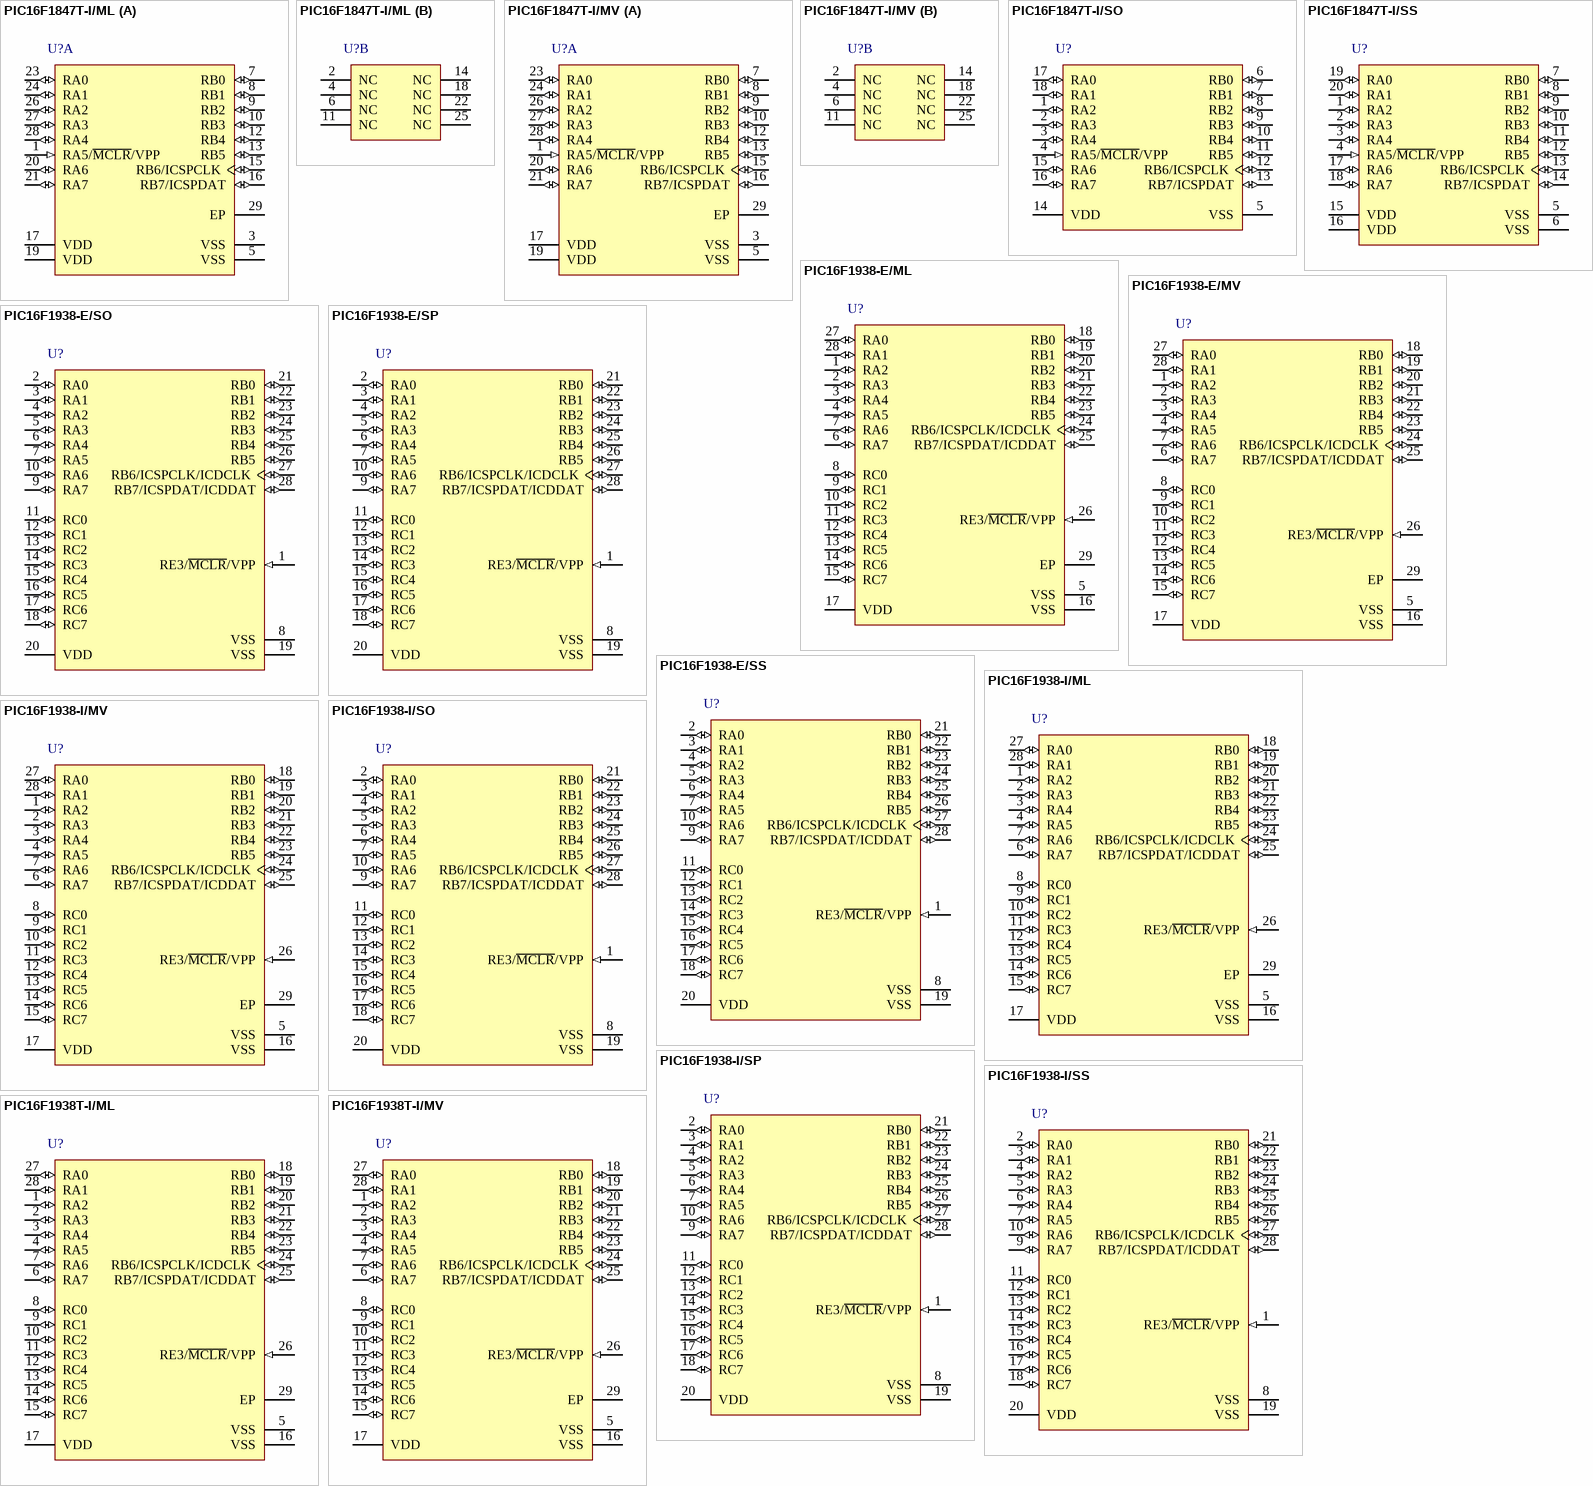
[diagram p62: symbols PIC16F1847T-I/ML to PIC16F1938T-I/MV]

## PIC16F1847T-I/ML
designator U?
Flash Microcontroller with XLP Technology, 32 MHz, 15 I/O, -40 to 85 degC, 28-pin QFN (ML28), Tape and Reel; Manufacturer: Microchip; PartNumber: PIC16F1847T-I/ML; # of A/D Channels: 12; Digital Communication: 1 -A/E/USART, 2 -MSSP(SPI/I2C); EEPROM Data Memory (bytes): 256; I/O Pins: 15; Internal Oscillator: 32 MHz, 31 kHz; Max. CPU Speed MHz: 32; Operation Voltage Range: 1.8V - 5.5V; Packing: T/R; Program Memory KBytes: 14; Program Memory KWords: 8; RAM: 1024; Timers: 4 - 8-bit, 1 - 16-bit; DatasheetVersion: Rev. D; PackageVersion: C04-105C, 12/2012; PackageReference: QFN-ML28; PackageDescription: 28-Lead Plastic Quad Flat, 6 x 6 mm Body, 0.65 mm Pitch; Supplier 1: Digi-Key; Supplier Part Number 1: PIC16F1847T-I/ML-ND; Supplier 2: Mouser; Supplier Part Number 2: 579-PIC16F1847T-I/ML; Memory Type: Flash; RoHS: TRUE; Mounting Technology: Surface Mount; ComponentLink1Description: Datasheet; ComponentLink1URL: http://ww1.microchip.com/downloads/en/DeviceDoc/40001453D.pdf; ComponentLink2Description: Package Specification; ComponentLink2URL: http://www.microchip.com/stellent/groups/techpub_sg/documents/packagingspec/en012702.pdf; ComponentLink3Description: URL Link1; ComponentLink3URL: Product URL:http://www.microchip.com/datasheet/PIC16F1847
footprint MCHP-QFN-ML28_N (QFN, 28-Leads, Body 6x6mm, Pitch 0.65mm, Thermal Pad 3.7x3.7mm, IPC Medium Density)
footprint MCHP-QFN-ML28_L (QFN, 28-Leads, Body 6x6mm, Pitch 0.65mm, Thermal Pad 3.7x3.7mm, IPC High Density)
footprint MCHP-QFN-ML28_M (QFN, 28-Leads, Body 6x6mm, Pitch 0.65mm, Thermal Pad 3.7x3.7mm, IPC Low Density)
part A pins: 1 RA5/~{MCLR}/VPP (in), 3 VSS (power) "Ground reference.", 5 VSS (power) "Ground reference.", 7 RB0 (io), 8 RB1 (io), 9 RB2 (io), 10 RB3 (io), 12 RB4 (io), 13 RB5 (io), 15 RB6/ICSPCLK (io), 16 RB7/ICSPDAT (io), 17 VDD (power) "Positive supply.", 19 VDD (power) "Positive supply.", 20 RA6 (io), 21 RA7 (io), 23 RA0 (io), 24 RA1 (io), 26 RA2 (io), 27 RA3 (io), 28 RA4 (io), 29 EP
part B pins: 2 NC, 4 NC, 6 NC, 11 NC, 14 NC, 18 NC, 22 NC, 25 NC

## PIC16F1847T-I/MV
designator U?
Flash Microcontroller with XLP Technology, 32 MHz, 15 I/O, -40 to 85 degC, 28-pin UQFN (MV28), Tape and Reel; Manufacturer: Microchip; PartNumber: PIC16F1847T-I/MV; # of A/D Channels: 12; Digital Communication: 1 -A/E/USART, 2 -MSSP(SPI/I2C); EEPROM Data Memory (bytes): 256; I/O Pins: 15; Internal Oscillator: 32 MHz, 31 kHz; Max. CPU Speed MHz: 32; Operation Voltage Range: 1.8V - 5.5V; Packing: T/R; Program Memory KBytes: 14; Program Memory KWords: 8; RAM: 1024; Timers: 4 - 8-bit, 1 - 16-bit; DatasheetVersion: Rev. D; PackageVersion: C04-152A, 04/2013; PackageReference: UQFN-MV28; PackageDescription: 28-Lead Plastic Ultra Thin Quad Flat, Body 4 x 4 mm, Pitch 0.4 mm; Supplier 1: Digi-Key; Supplier Part Number 1: PIC16F1847T-I/MV-ND; Supplier 2: Mouser; Supplier Part Number 2: 579-PIC16F1847T-I/MV; Memory Type: Flash; RoHS: TRUE; Mounting Technology: Surface Mount; ComponentLink1Description: Datasheet; ComponentLink1URL: http://ww1.microchip.com/downloads/en/DeviceDoc/40001453D.pdf; ComponentLink2Description: Package Specification; ComponentLink2URL: http://www.microchip.com/stellent/groups/techpub_sg/documents/packagingspec/en012702.pdf; ComponentLink3Description: URL Link1; ComponentLink3URL: Product URL:http://www.microchip.com/datasheet/PIC16F1847
footprint MCHP-UQFN-MV28_N (QFN, 28-Leads, Body 4x4mm, Pitch 0.4mm, Thermal Pad 2.65x2.65mm, IPC Medium Density)
footprint MCHP-UQFN-MV28_L (QFN, 28-Leads, Body 4x4mm, Pitch 0.4mm, Thermal Pad 2.65x2.65mm, IPC High Density)
footprint MCHP-UQFN-MV28_M (QFN, 28-Leads, Body 4x4mm, Pitch 0.4mm, Thermal Pad 2.65x2.65mm, IPC Low Density)
part A pins: 1 RA5/~{MCLR}/VPP (in), 3 VSS (power) "Ground reference.", 5 VSS (power) "Ground reference.", 7 RB0 (io), 8 RB1 (io), 9 RB2 (io), 10 RB3 (io), 12 RB4 (io), 13 RB5 (io), 15 RB6/ICSPCLK (io), 16 RB7/ICSPDAT (io), 17 VDD (power) "Positive supply.", 19 VDD (power) "Positive supply.", 20 RA6 (io), 21 RA7 (io), 23 RA0 (io), 24 RA1 (io), 26 RA2 (io), 27 RA3 (io), 28 RA4 (io), 29 EP
part B pins: 2 NC, 4 NC, 6 NC, 11 NC, 14 NC, 18 NC, 22 NC, 25 NC

## PIC16F1847T-I/SO
designator U?
Flash Microcontroller with XLP Technology, 32 MHz, 15 I/O, -40 to 85 degC, 18-pin SOIC (SO18), Tape and Reel; Manufacturer: Microchip; PartNumber: PIC16F1847T-I/SO; # of A/D Channels: 12; Digital Communication: 1 -A/E/USART, 2 -MSSP(SPI/I2C); EEPROM Data Memory (bytes): 256; I/O Pins: 15; Internal Oscillator: 32 MHz, 31 kHz; Max. CPU Speed MHz: 32; Operation Voltage Range: 1.8V - 5.5V; Packing: T/R; Program Memory KBytes: 14; Program Memory KWords: 8; RAM: 1024; Timers: 4 - 8-bit, 1 - 16-bit; DatasheetVersion: Rev. D; PackageVersion: C04-051C, 12/2012; PackageReference: SOIC-SO18; PackageDescription: 18-Lead Plastic Small Outline, 7.5 x 11.55 mm Body, 1.27 mm Pitch; Supplier 1: Digi-Key; Supplier Part Number 1: PIC16F1847T-I/SO-ND; Supplier 2: Newark; Supplier Part Number 2: 23T3110; Supplier 3: Mouser; Supplier Part Number 3: 579-PIC16F1847T-I/SO; Memory Type: Flash; RoHS: TRUE; Mounting Technology: Surface Mount; ComponentLink1Description: Datasheet; ComponentLink1URL: http://ww1.microchip.com/downloads/en/DeviceDoc/40001453D.pdf; ComponentLink2Description: Package Specification; ComponentLink2URL: http://www.microchip.com/stellent/groups/techpub_sg/documents/packagingspec/en012702.pdf; ComponentLink3Description: URL Link1; ComponentLink3URL: Product URL:http://www.microchip.com/datasheet/PIC16F1847
footprint MCHP-SOIC-SO18_N (SOIC, 18-Leads, Body 11.55x7.5mm, Pitch 1.27mm, IPC Medium Density)
footprint MCHP-SOIC-SO18_L (SOIC, 18-Leads, Body 11.55x7.5mm, Pitch 1.27mm, IPC High Density)
footprint MCHP-SOIC-SO18_M (SOIC, 18-Leads, Body 11.55x7.5mm, Pitch 1.27mm, IPC Low Density)
pins: 1 RA2 (io), 2 RA3 (io), 3 RA4 (io), 4 RA5/~{MCLR}/VPP (in), 5 VSS (power) "Ground reference.", 6 RB0 (io), 7 RB1 (io), 8 RB2 (io), 9 RB3 (io), 10 RB4 (io), 11 RB5 (io), 12 RB6/ICSPCLK (io), 13 RB7/ICSPDAT (io), 14 VDD (power) "Positive supply.", 15 RA6 (io), 16 RA7 (io), 17 RA0 (io), 18 RA1 (io)

## PIC16F1847T-I/SS
designator U?
Flash Microcontroller with XLP Technology, 32 MHz, 15 I/O, -40 to 85 degC, 20-pin SSOP (SS20), Tape and Reel; Manufacturer: Microchip; PartNumber: PIC16F1847T-I/SS; # of A/D Channels: 12; Digital Communication: 1 -A/E/USART, 2 -MSSP(SPI/I2C); EEPROM Data Memory (bytes): 256; I/O Pins: 15; Internal Oscillator: 32 MHz, 31 kHz; Max. CPU Speed MHz: 32; Operation Voltage Range: 1.8V - 5.5V; Packing: T/R; Program Memory KBytes: 14; Program Memory KWords: 8; RAM: 1024; Timers: 4 - 8-bit, 1 - 16-bit; DatasheetVersion: Rev. D; PackageVersion: C04-072B, 12/2012; PackageReference: SSOP-SS20; PackageDescription: 20-Lead Plastic Shrink Small Outline, 5.3 x 7.2 mm Body, 0.65 mm Pitch; Supplier 1: Digi-Key; Supplier Part Number 1: PIC16F1847T-I/SS-ND; Supplier 2: Mouser; Supplier Part Number 2: 579-PIC16F1847T-I/SS; Memory Type: Flash; RoHS: TRUE; Mounting Technology: Surface Mount; ComponentLink1Description: Datasheet; ComponentLink1URL: http://ww1.microchip.com/downloads/en/DeviceDoc/40001453D.pdf; ComponentLink2Description: Package Specification; ComponentLink2URL: http://www.microchip.com/stellent/groups/techpub_sg/documents/packagingspec/en012702.pdf; ComponentLink3Description: URL Link1; ComponentLink3URL: Product URL:http://www.microchip.com/datasheet/PIC16F1847
footprint MCHP-SSOP-SS20_N (SOP, 20-Leads, Body 7.2x5.3mm, Pitch 0.65mm, IPC Medium Density)
footprint MCHP-SSOP-SS20_L (SOP, 20-Leads, Body 7.2x5.3mm, Pitch 0.65mm, IPC High Density)
footprint MCHP-SSOP-SS20_M (SOP, 20-Leads, Body 7.2x5.3mm, Pitch 0.65mm, IPC Low Density)
pins: 1 RA2 (io), 2 RA3 (io), 3 RA4 (io), 4 RA5/~{MCLR}/VPP (in), 5 VSS (power) "Ground reference.", 6 VSS (power) "Ground reference.", 7 RB0 (io), 8 RB1 (io), 9 RB2 (io), 10 RB3 (io), 11 RB4 (io), 12 RB5 (io), 13 RB6/ICSPCLK (io), 14 RB7/ICSPDAT (io), 15 VDD (power) "Positive supply.", 16 VDD (power) "Positive supply.", 17 RA6 (io), 18 RA7 (io), 19 RA0 (io), 20 RA1 (io)

## PIC16F1938-E/ML
designator U?
Flash-Based, 8-Bit CMOS Microcontroller with LCD Driver with nanoWatt XLP Technology, 32 MHz, 24 I/O, -40 to 125 degC, 28-pin QFN (ML28), Tube; Manufacturer: Microchip; PartNumber: PIC16F1938-E/ML; # of A/D Channels: 11; Digital Communication: 1 -A/E/USART, 1 -MSSP(SPI/I2C); EEPROM Data Memory (bytes): 256; I/O Pins: 24; Internal Oscillator: 32 MHz, 31 kHz; Max. CPU Speed MHz: 32; Memory Type: Flash; Operation Voltage Range: 1.8V - 5.5V; Program Memory KBytes: 28; Program Memory KWords: 16; RAM: 1024; Timers: 4 - 8-bit, 1 - 16-bit, 0 - 32-bit; DatasheetVersion: Rev. B; PackageVersion: C04-105C, 12/2012; PackageReference: QFN-ML28; PackageDescription: 28-Lead Plastic Quad Flat, 6 x 6 mm Body, 0.65 mm Pitch; Supplier 1: Digi-Key; Supplier Part Number 1: PIC16F1938-E/ML-ND; Supplier 2: Mouser; Supplier Part Number 2: 579-PIC16F1938-E/ML; Packing: TUBE; RoHS: TRUE; Mounting Technology: Surface Mount; ComponentLink1Description: Datasheet; ComponentLink1URL: http://ww1.microchip.com/downloads/en/DeviceDoc/41574B.pdf; ComponentLink2Description: Package Specification; ComponentLink2URL: http://www.microchip.com/stellent/groups/techpub_sg/documents/packagingspec/en012702.pdf; ComponentLink3Description: URL Link1; ComponentLink3URL: Product URL:http://www.microchip.com/datasheet/PIC16F1938
footprint MCHP-QFN-ML28_N (QFN, 28-Leads, Body 6x6mm, Pitch 0.65mm, Thermal Pad 3.7x3.7mm, IPC Medium Density)
footprint MCHP-QFN-ML28_L (QFN, 28-Leads, Body 6x6mm, Pitch 0.65mm, Thermal Pad 3.7x3.7mm, IPC High Density)
footprint MCHP-QFN-ML28_M (QFN, 28-Leads, Body 6x6mm, Pitch 0.65mm, Thermal Pad 3.7x3.7mm, IPC Low Density)
pins: 1 RA2 (io), 2 RA3 (io), 3 RA4 (io), 4 RA5 (io), 5 VSS (power) "Ground reference.", 6 RA7 (io), 7 RA6 (io), 8 RC0 (io), 9 RC1 (io), 10 RC2 (io), 11 RC3 (io), 12 RC4 (io), 13 RC5 (io), 14 RC6 (io), 15 RC7 (io), 16 VSS (power) "Ground reference.", 17 VDD (power) "Positive supply.", 18 RB0 (io), 19 RB1 (io), 20 RB2 (io), 21 RB3 (io), 22 RB4 (io), 23 RB5 (io), 24 RB6/ICSPCLK/ICDCLK (io), 25 RB7/ICSPDAT/ICDDAT (io), 26 RE3/~{MCLR}/VPP (in), 27 RA0 (io), 28 RA1 (io), 29 EP

## PIC16F1938-E/MV
designator U?
Flash-Based, 8-Bit CMOS Microcontroller with LCD Driver with nanoWatt XLP Technology, 32 MHz, 24 I/O, -40 to 125 degC, 28-pin UQFN (MV28), Tube; Manufacturer: Microchip; PartNumber: PIC16F1938-E/MV; # of A/D Channels: 11; Digital Communication: 1 -A/E/USART, 1 -MSSP(SPI/I2C); EEPROM Data Memory (bytes): 256; I/O Pins: 24; Internal Oscillator: 32 MHz, 31 kHz; Max. CPU Speed MHz: 32; Memory Type: Flash; Operation Voltage Range: 1.8V - 5.5V; Program Memory KBytes: 28; Program Memory KWords: 16; RAM: 1024; Timers: 4 - 8-bit, 1 - 16-bit, 0 - 32-bit; DatasheetVersion: Rev. B; PackageVersion: C04-152A, 04/2013; PackageReference: UQFN-MV28; PackageDescription: 28-Lead Plastic Ultra Thin Quad Flat, Body 4 x 4 mm, Pitch 0.4 mm; Supplier 1: Digi-Key; Supplier Part Number 1: PIC16F1938-E/MV-ND; Supplier 2: Mouser; Supplier Part Number 2: 579-PIC16F1938-E/MV; Packing: TUBE; RoHS: TRUE; Mounting Technology: Surface Mount; ComponentLink1Description: Datasheet; ComponentLink1URL: http://ww1.microchip.com/downloads/en/DeviceDoc/41574B.pdf; ComponentLink2Description: Package Specification; ComponentLink2URL: http://www.microchip.com/stellent/groups/techpub_sg/documents/packagingspec/en012702.pdf; ComponentLink3Description: URL Link1; ComponentLink3URL: Product URL:http://www.microchip.com/datasheet/PIC16F1938
footprint MCHP-UQFN-MV28_N (QFN, 28-Leads, Body 4x4mm, Pitch 0.4mm, Thermal Pad 2.65x2.65mm, IPC Medium Density)
footprint MCHP-UQFN-MV28_L (QFN, 28-Leads, Body 4x4mm, Pitch 0.4mm, Thermal Pad 2.65x2.65mm, IPC High Density)
footprint MCHP-UQFN-MV28_M (QFN, 28-Leads, Body 4x4mm, Pitch 0.4mm, Thermal Pad 2.65x2.65mm, IPC Low Density)
pins: 1 RA2 (io), 2 RA3 (io), 3 RA4 (io), 4 RA5 (io), 5 VSS (power) "Ground reference.", 6 RA7 (io), 7 RA6 (io), 8 RC0 (io), 9 RC1 (io), 10 RC2 (io), 11 RC3 (io), 12 RC4 (io), 13 RC5 (io), 14 RC6 (io), 15 RC7 (io), 16 VSS (power) "Ground reference.", 17 VDD (power) "Positive supply.", 18 RB0 (io), 19 RB1 (io), 20 RB2 (io), 21 RB3 (io), 22 RB4 (io), 23 RB5 (io), 24 RB6/ICSPCLK/ICDCLK (io), 25 RB7/ICSPDAT/ICDDAT (io), 26 RE3/~{MCLR}/VPP (in), 27 RA0 (io), 28 RA1 (io), 29 EP

## PIC16F1938-E/SO
designator U?
Flash-Based, 8-Bit CMOS Microcontroller with LCD Driver with nanoWatt XLP Technology, 32 MHz, 24 I/O, -40 to 125 degC, 28-pin SOIC (SO28), Tube; Manufacturer: Microchip; PartNumber: PIC16F1938-E/SO; # of A/D Channels: 11; Digital Communication: 1 -A/E/USART, 1 -MSSP(SPI/I2C); EEPROM Data Memory (bytes): 256; I/O Pins: 24; Internal Oscillator: 32 MHz, 31 kHz; Max. CPU Speed MHz: 32; Memory Type: Flash; Operation Voltage Range: 1.8V - 5.5V; Program Memory KBytes: 28; Program Memory KWords: 16; RAM: 1024; Timers: 4 - 8-bit, 1 - 16-bit, 0 - 32-bit; DatasheetVersion: Rev. B; PackageVersion: C04-052C, 12/2012; PackageReference: SOIC-SO28; PackageDescription: 28-Lead Plastic Small Outline, 17.9 x 7.5 mm Body, 1.27 mm Pitch; Supplier 1: Digi-Key; Supplier Part Number 1: PIC16F1938-E/SO-ND; Supplier 2: Mouser; Supplier Part Number 2: 579-PIC16F1938-E/SO; Packing: TUBE; RoHS: TRUE; Mounting Technology: Surface Mount; ComponentLink1Description: Datasheet; ComponentLink1URL: http://ww1.microchip.com/downloads/en/DeviceDoc/41574B.pdf; ComponentLink2Description: Package Specification; ComponentLink2URL: http://www.microchip.com/stellent/groups/techpub_sg/documents/packagingspec/en012702.pdf; ComponentLink3Description: URL Link1; ComponentLink3URL: Product URL:http://www.microchip.com/datasheet/PIC16F1938
footprint MCHP-SOIC-SO28_N (SOIC, 28-Leads, Body 17.9x7.5mm, Pitch 1.27mm, IPC Medium Density)
footprint MCHP-SOIC-SO28_L (SOIC, 28-Leads, Body 17.9x7.5mm, Pitch 1.27mm, IPC High Density)
footprint MCHP-SOIC-SO28_M (SOIC, 28-Leads, Body 17.9x7.5mm, Pitch 1.27mm, IPC Low Density)
pins: 1 RE3/~{MCLR}/VPP (in), 2 RA0 (io), 3 RA1 (io), 4 RA2 (io), 5 RA3 (io), 6 RA4 (io), 7 RA5 (io), 8 VSS (power) "Ground reference.", 9 RA7 (io), 10 RA6 (io), 11 RC0 (io), 12 RC1 (io), 13 RC2 (io), 14 RC3 (io), 15 RC4 (io), 16 RC5 (io), 17 RC6 (io), 18 RC7 (io), 19 VSS (power) "Ground reference.", 20 VDD (power) "Positive supply.", 21 RB0 (io), 22 RB1 (io), 23 RB2 (io), 24 RB3 (io), 25 RB4 (io), 26 RB5 (io), 27 RB6/ICSPCLK/ICDCLK (io), 28 RB7/ICSPDAT/ICDDAT (io)

## PIC16F1938-E/SP
designator U?
Flash-Based, 8-Bit CMOS Microcontroller with LCD Driver with nanoWatt XLP Technology, 32 MHz, 24 I/O, -40 to 125 degC, 28-pin SPDIP (SP28), Tube; Manufacturer: Microchip; PartNumber: PIC16F1938-E/SP; # of A/D Channels: 11; Digital Communication: 1 -A/E/USART, 1 -MSSP(SPI/I2C); EEPROM Data Memory (bytes): 256; I/O Pins: 24; Internal Oscillator: 32 MHz, 31 kHz; Max. CPU Speed MHz: 32; Memory Type: Flash; Operation Voltage Range: 1.8V - 5.5V; Program Memory KBytes: 28; Program Memory KWords: 16; RAM: 1024; Timers: 4 - 8-bit, 1 - 16-bit, 0 - 32-bit; DatasheetVersion: Rev. B; PackageVersion: C04-070B, 12/2012; PackageReference: SPDIP-SP28; PackageDescription: 28-Lead Plastic Dual In-Line, 34.86 x 6.79 mm Body, 2.54 mm Pitch; Supplier 1: Digi-Key; Supplier Part Number 1: PIC16F1938-E/SP-ND; Supplier 2: Mouser; Supplier Part Number 2: 579-PIC16F1938-E/SP; Packing: TUBE; RoHS: TRUE; Mounting Technology: Through Hole; ComponentLink1Description: Datasheet; ComponentLink1URL: http://ww1.microchip.com/downloads/en/DeviceDoc/41574B.pdf; ComponentLink2Description: Package Specification; ComponentLink2URL: http://www.microchip.com/stellent/groups/techpub_sg/documents/packagingspec/en012702.pdf; ComponentLink3Description: URL Link1; ComponentLink3URL: Product URL:http://www.microchip.com/datasheet/PIC16F1938
footprint MCHP-SPDIP-SP28 (DIP, 28-Leads, Body 34.86x6.79mm, Pitch 2.54mm)
pins: 1 RE3/~{MCLR}/VPP (in), 2 RA0 (io), 3 RA1 (io), 4 RA2 (io), 5 RA3 (io), 6 RA4 (io), 7 RA5 (io), 8 VSS (power) "Ground reference.", 9 RA7 (io), 10 RA6 (io), 11 RC0 (io), 12 RC1 (io), 13 RC2 (io), 14 RC3 (io), 15 RC4 (io), 16 RC5 (io), 17 RC6 (io), 18 RC7 (io), 19 VSS (power) "Ground reference.", 20 VDD (power) "Positive supply.", 21 RB0 (io), 22 RB1 (io), 23 RB2 (io), 24 RB3 (io), 25 RB4 (io), 26 RB5 (io), 27 RB6/ICSPCLK/ICDCLK (io), 28 RB7/ICSPDAT/ICDDAT (io)